# EAGLE library part MAX5723/4/5 (library dac)
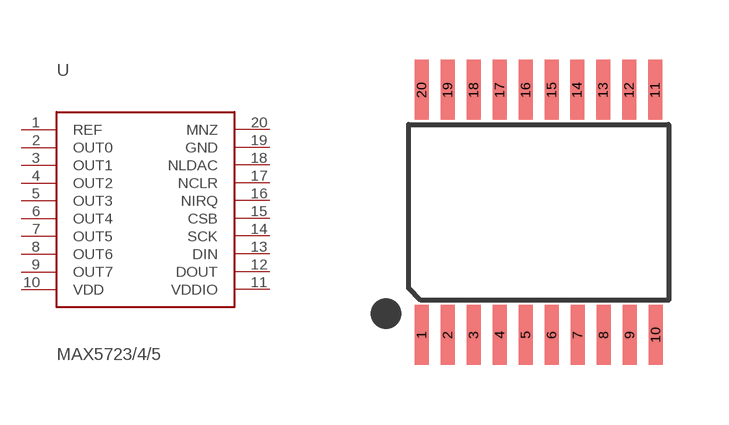
[diagram p0: symbol with the pads of TSSOP20-0.65-6.5X4.4MM; footprint TSSOP20-0.65-6.5X4.4MM]

Designator prefix U

## MAX5723/4/5  [TSSOP20-0.65-6.5X4.4MM]
1  REF
2  OUT0
3  OUT1
4  OUT2
5  OUT3
6  OUT4
7  OUT5
8  OUT6
9  OUT7
10  VDD  pwr
11  VDDIO  pwr
12  DOUT
13  DIN
14  SCK
15  CSB
16  NIRQ
17  NCLR
18  NLDAC
19  GND  pwr
20  MNZ

## Footprint TSSOP20-0.65-6.5X4.4MM (pad centres in mm)
smd 0.35 x 1.5: 1 -2.925,-3.065; 2 -2.275,-3.065; 3 -1.625,-3.065; 4 -0.975,-3.065; 5 -0.325,-3.065; 6 0.325,-3.065; 7 0.975,-3.065; 8 1.625,-3.065; 9 2.275,-3.065; 10 2.925,-3.065; 11 2.91,3.065; 12 2.26,3.065; 13 1.61,3.065; 14 0.96,3.065; 15 0.325,3.065; 16 -0.325,3.065; 17 -0.975,3.065; 18 -1.625,3.065; 19 -2.275,3.065; 20 -2.925,3.065